# Altium footprint library LL4148.PcbLib: 4 footprints
Each footprint in its own frame and in the unit in brackets; x right, y up, seen from the top. Pads: shape width x height; smd on the part's side, far side on the other; paste and mask are expansions set on the pad; w line width, h text height; cw(c..) or ccw(c..) is an arc to the next point about the centre after c.
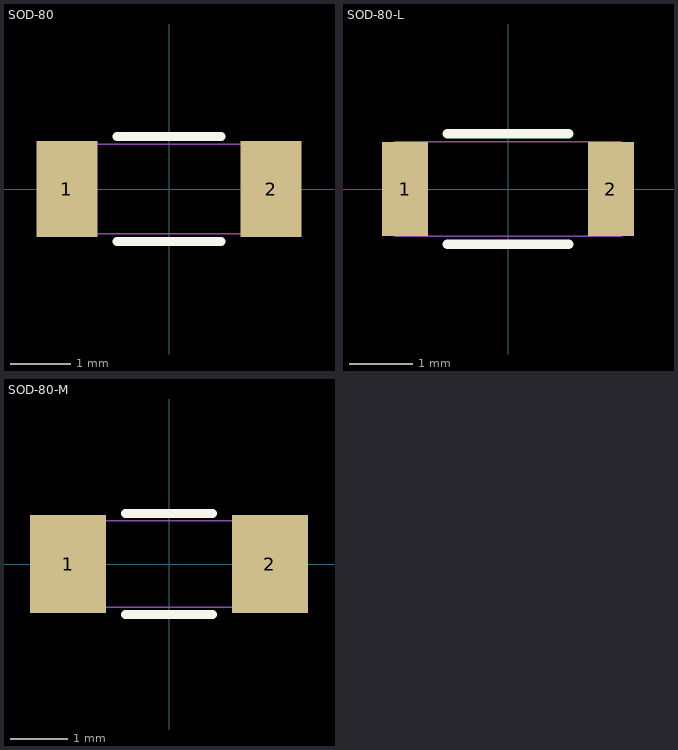
[diagram p0: the footprints below, top view; thin cyan lines are the x and y axes]

## PCBComponent_1 [mil]

## SOD-80 [mil]
pads (2):
  rect 40x63 smd: 1(-67,0) 2(67,0)
Top Layer keep-out:
  region: 
Top Overlay:
  lines w6: -34.25,-34.5 34.25,-34.5 ; -34.25,34.5 34.25,34.5
Mechanical 1:
  lines w1: -71,-14.75 -56.25,-29.5 ; -71,14.75 -56.25,29.5 ; -71,-29.5 71,-29.5 71,29.5 -71,29.5 -71,-29.5
3D body "LL4148.step": height 62.99, standoff 0, extent -74.01,-31.49 71.66,31.5

## SOD-80-L [mil]
pads (2):
  rect 29x59 smd: 1(-64.5,0) 2(64.5,0)
Top Layer keep-out:
  region: 
Top Overlay:
  lines w6: -37.89,-34.5 37.89,-34.5 ; -37.89,34.5 37.89,34.5
Mechanical 1:
  lines w1: -71,-14.75 -56.25,-29.5 ; -71,14.75 -56.25,29.5 ; -71,-29.5 71,-29.5 71,29.5 -71,29.5 -71,-29.5

## SOD-80-M [mil]
pads (2):
  rect 52x67 smd: 1(-69,0) 2(69,0)
Top Layer keep-out:
  region: 
Top Overlay:
  lines w6: -29.94,-34.5 29.94,-34.5 ; -29.94,34.5 29.94,34.5
Mechanical 1:
  lines w1: -71,-14.75 -56.25,-29.5 ; -71,14.75 -56.25,29.5 ; -71,-29.5 71,-29.5 71,29.5 -71,29.5 -71,-29.5